# EAGLE library part V23105A5001A201 (library V23105A5001A201)
DPDT submin relay,3A 5Vdc coil 150mW TE Connectivity DPDT PCB Mount Non-Latching Relay, 5V dc Coil Source: Datasheet <http://www.te.com/commerce/DocumentDelivery/DDEController?Action=showdoc&DocId=Customer Drawing1393792-2A8pdfEnglishENG_CD_1393792-2_A8.pdf8-1393792-5>
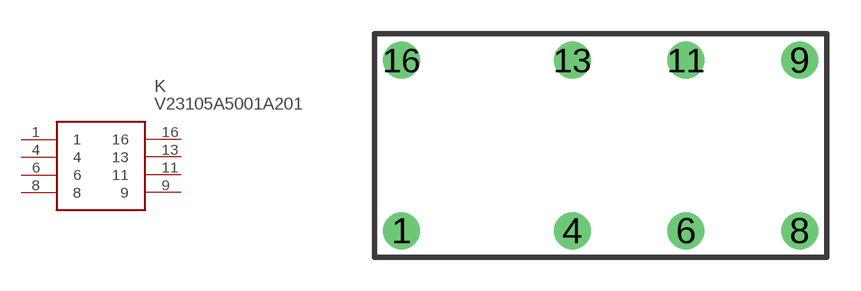
[diagram p0: symbol with the pads of V23105A5001A201; footprint V23105A5001A201]

Designator prefix K

## V23105A5001A201 (Description: DPDT submin relay,3A 5Vdc coil 150mW TE Connectivity DPDT PCB Mount Non-Latching Relay, 5V dc Coil; Height: mm; Manufacturer_Name: TE Connectivity; Manufacturer_Part_Number: V23105A5001A201; Mouser_Part_Number: 655-V23105A5001A201; Mouser_Price-Stock: https://www.mouser.co.uk/ProductDetail/TE-Connectivity-PB/V23105A5001A201?qs=CizG3IxbuFMuVNcxrZR29g%3D%3D)  [V23105A5001A201]
1  1
4  4
6  6
8  8
9  9
11  11
13  13
16  16

## Footprint V23105A5001A201 (pad centres in mm)
V23105A5005A201
drill 1.1 pad 1.65: 1 -8.89,-3.81; 4 -1.27,-3.81; 6 3.81,-3.81; 8 8.89,-3.81; 9 8.89,3.81; 11 3.81,3.81; 13 -1.27,3.81; 16 -8.89,3.81